# EAGLE library part LUMEX-LDQ-284RI (library 7seg_x4)
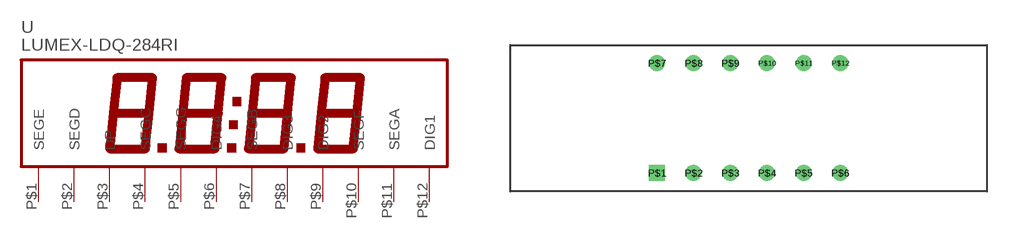
[diagram p0: symbol with the pads of LDQ-284RI; footprint LDQ-284RI]

Designator prefix -

## LUMEX-LDQ-284RI  [LDQ-284RI]
P$1  SEGE
P$2  SEGD
P$3  DP
P$4  SEGC
P$5  SEGG
P$6  DIG4
P$7  SEGB
P$8  DIG3
P$9  DIG2
P$10  SEGF
P$11  SEGA
P$12  DIG1

## Footprint LDQ-284RI (pad centres in mm)
Layout for LUMEX LCD LDQ-M284RI
drill 0.6 square: P$1 -6.35,-3.81
drill 0.6: P$2 -3.81,-3.81; P$3 -1.27,-3.81; P$4 1.27,-3.81; P$5 3.81,-3.81; P$6 6.35,-3.81; P$7 -6.35,3.81; P$8 -3.81,3.81; P$9 -1.27,3.81; P$10 1.27,3.81; P$11 3.81,3.81; P$12 6.35,3.81